# Altium schematic symbol library OT Library.SchLib: 560 symbols (part 5 of 5)
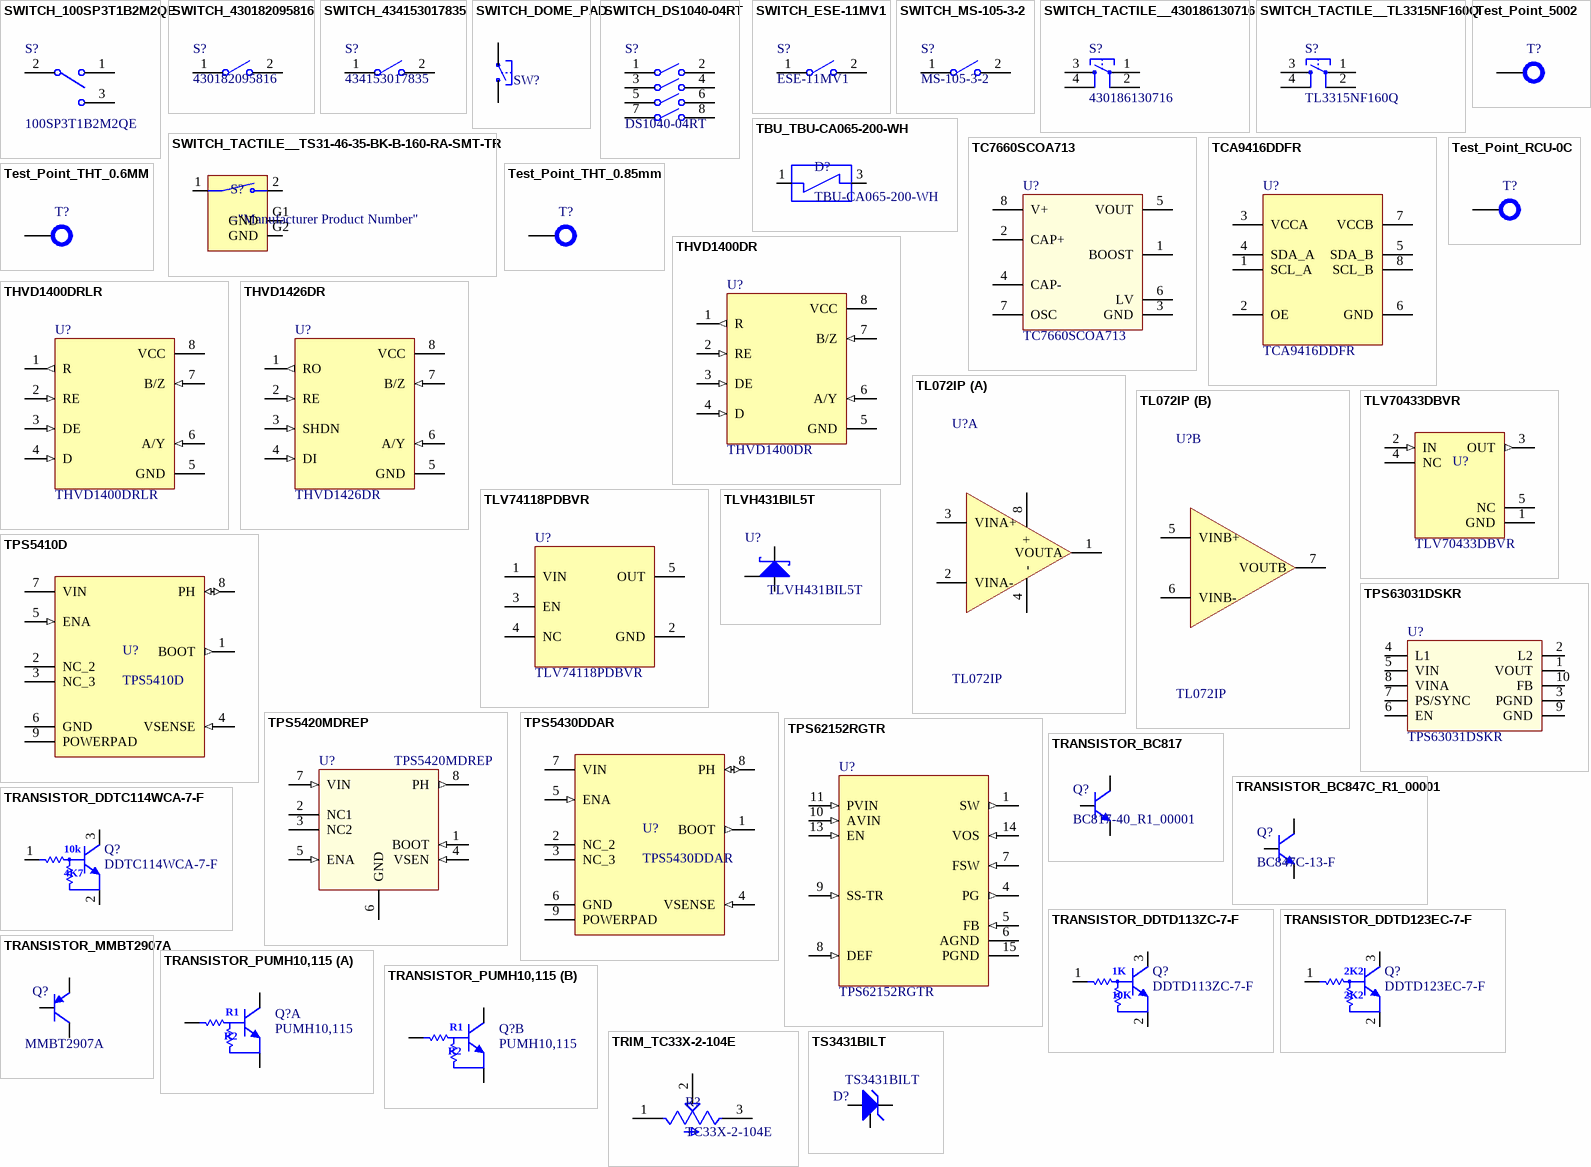
[diagram p22: symbols SWITCH_100SP3T1B2M2QE to TS3431BILT]

## TRANSISTOR_DDTC114WCA-7-F
designator Q?, comment DDTC114WCA-7-F
TRANS PREBIAS NPN 50V SOT23-3; Manufacturer: Diodes Incorporated; Manufacturer Part Number: DDTC114WCA-7-F; LCSC Part: C151436
footprint SOT-23-3 (TO-236-3, SC-59, SOT-23-3)
pins: 1 B, 2 E, 3 C
text: 10k; 4K7

## TRANSISTOR_DDTD113ZC-7-F
designator Q?, comment DDTD113ZC-7-F
TRANS PREBIAS NPN 50V SOT23-3; Manufacturer: Diodes Incorporated; Manufacturer Part Number: DDTD113ZC-7-F; ComponentLink1URL: https://www.diodes.com/assets/Datasheets/ds30384.pdf; ComponentLink1Description: https://www.diodes.com/assets/Datasheets/ds30384.pdf; LCSC Part: C155303
footprint SOT-23-3 (TO-236-3, SC-59, SOT-23-3)
pins: 1 B, 2 E, 3 C
text: 1K; 10K

## TRANSISTOR_DDTD123EC-7-F
designator Q?, comment DDTD123EC-7-F
TRANS PREBIAS NPN 50V SOT23-3; Manufacturer: Diodes Incorporated; Manufacturer Part Number: DDTD123EC-7-F; LCSC Part: C526550
footprint SOT-23-3 (TO-236-3, SC-59, SOT-23-3)
pins: 1 B, 2 E, 3 C
text: 2K2

## TRANSISTOR_MMBT2907A
designator Q?, comment MMBT2907A
TRANS PNP 60V 0.6A SOT-23; Manufacturer: Diotec Semiconductor; Manufacturer Part Number: MMBT2907A; LCSC Part: C462959
footprint SOT-23 (TO-236AB)
pins: 1 B, 2 E, 3 C

## TRANSISTOR_PUMH10,115
designator Q?, comment PUMH10,115
TRANS PREBIAS 2NPN 50V 6TSSOP; Manufacturer: Nexperia USA; Current - Collector (Ic) (Max): 100 mA; Manufacturer Part Number: PUMH10,115; Voltage - Collector Emitter Breakdown (Max): 50V; Datasheet: https://assets.nexperia.com/documents/data-sheet/PEMH10_PUMH10.pdf; LCSC Part: C81379
footprint 6-TSSOP (Footprint not found)
part A pins: 1 E, 2 B, 6 C
part B pins: 3 C, 4 E, 5 B
part A text: R1; R2
part B text: R1; R2

## TRIM_TC33X-2-104E
designator R?, comment TC33X-2-104E
TRIMMER 100KOHM 0.15W J LEAD TOP; Manufacturer: Bourns; LCSC Part: C719186; Manufacturer Part Number: TC33X-2-104E
footprint TRIM_TC33X-2-104E
pins: 1 CCW, 2 W, 3 CW

## TS3431BILT
designator D?
IC VREF SHUNT ADJ 0.5% SOT23-3; Manufacturer: STMicroelectronics; Manufacturer Part Number: TS3431BILT; LCSC Part: C222248
footprint SOT-23-3 (TO-236-3, SC-59, SOT-23-3)
pins: 1 Ref, 2 K, 3 A

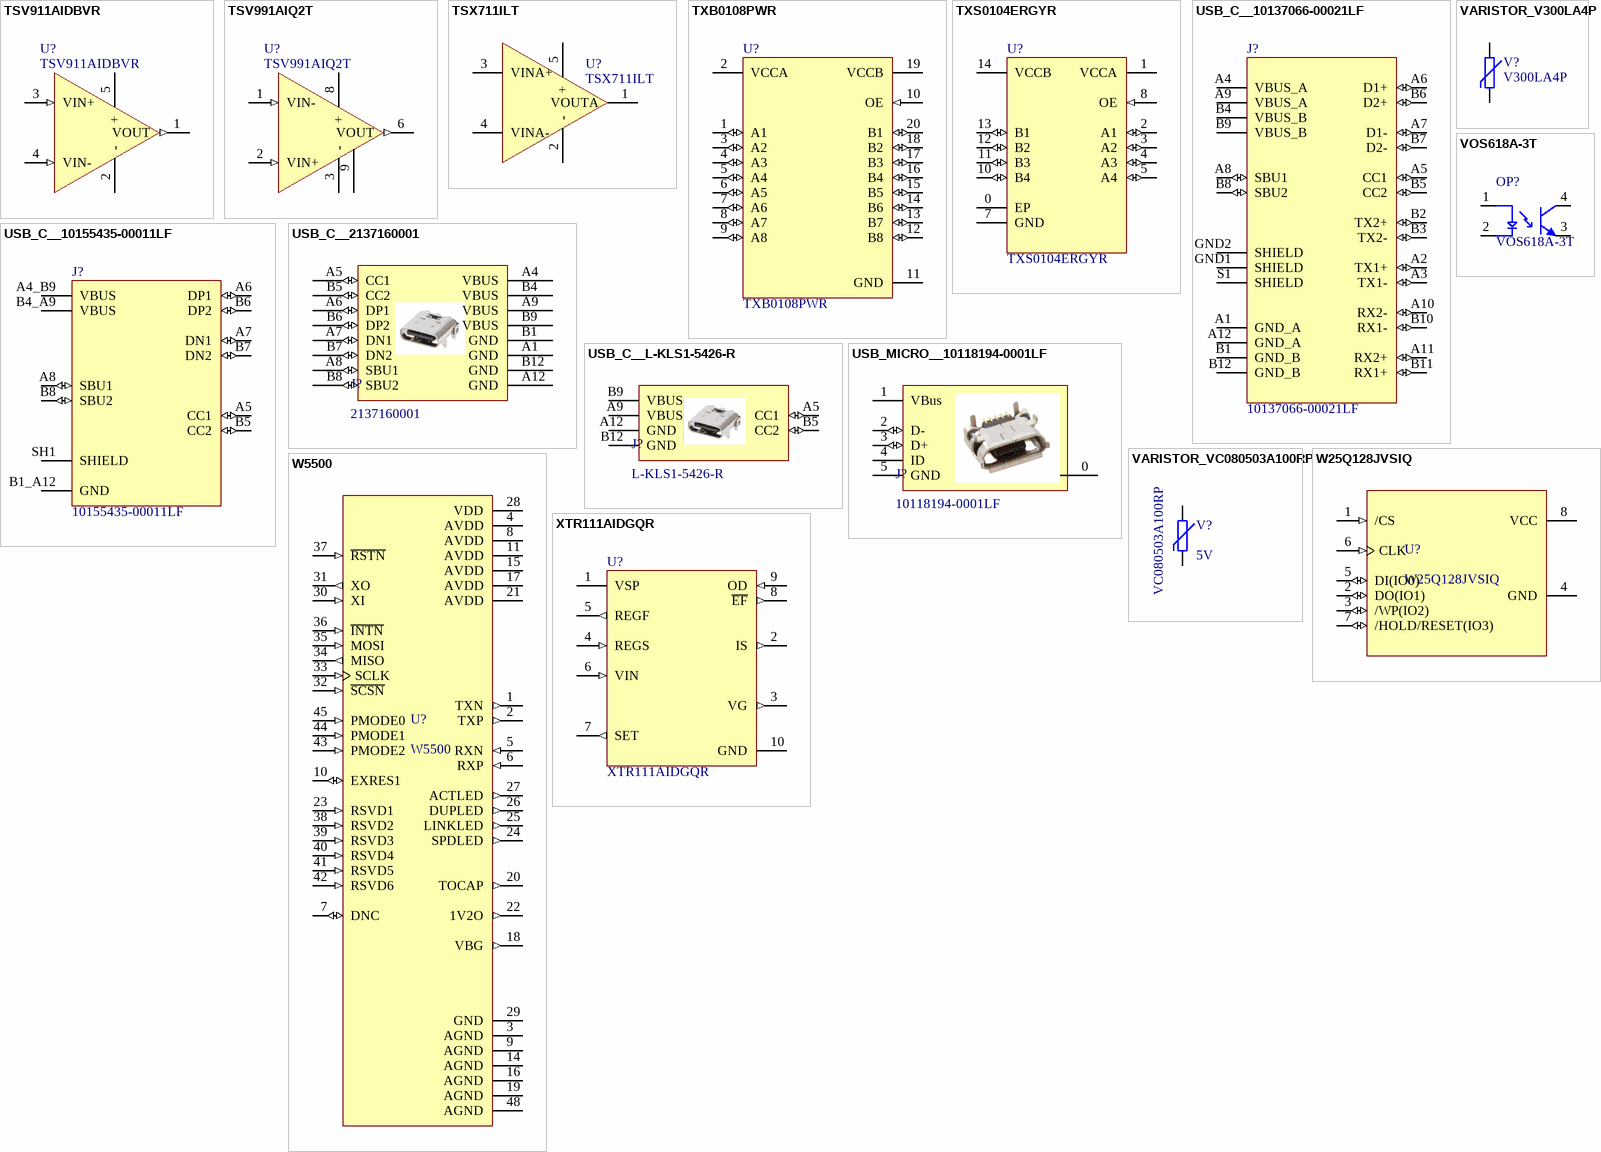
[diagram p18: symbols TSV911AIDBVR to XTR111AIDGQR]

## TSV911AIDBVR
designator U?
IC OPAMP GP 1 CIRCUIT SOT23-5; Manufacturer: Texas Instruments; Manufacturer Part Number: TSV911AIDBVR
footprint SOT-23-5 (SC-74A, SOT-753)
pins: 1 VOUT (out), 2 - (power), 3 VIN+ (in), 4 VIN- (in), 5 + (power)

## TSV991AIQ2T
designator U?
IC OPAMP GP 1 CIRCUIT 8DFN; Manufacturer: Texas Instruments; Manufacturer Part Number: TSV991AIQ2T
footprint 8-UFDFN Exposed Pad (8-DFN (2x2))
pins: 1 VIN- (in), 2 VIN+ (in), 3 - (power), 6 VOUT (out), 7 - (power), 8 + (power), 9 EP (power)

## TSX711ILT
designator U?
IC OPAMP GP 1 CIRCUIT SOT23-5; Manufacturer: STMicroelectronics; Manufacturer Part Number: TSX711ILT; LCSC Part: C443987
footprint SOT-23-5 (SC-74A, SOT-753)
pins: 1 VOUTA, 2 -, 3 VINA+, 4 VINA-, 5 +

## TXB0108PWR
designator U?
IC TRANSLATOR BIDIR 20TSSOP; Manufacturer: Texas Instruments; Manufacturer Part Number: TXB0108PWR; LCSC Part: C53406
footprint 20-TSSOP ((0.173", 4.40mm Width))
pins: 1 A1 (io), 2 VCCA (power), 3 A2 (io), 4 A3 (io), 5 A4 (io), 6 A5 (io), 7 A6 (io), 8 A7 (io), 9 A8 (io), 10 OE (in), 11 GND (power), 12 B8 (io), 13 B7 (io), 14 B6 (io), 15 B5 (io), 16 B4 (io), 17 B3 (io), 18 B2 (io), 19 VCCB (power), 20 B1 (io)

## TXS0104ERGYR
designator U?
IC TRANSLTR BIDIRECTIONAL 14VQFN; Manufacturer: TEXAS INSTRUMENTS; Manufacturer Part Number: TXS0104ERGYR; ComponentLink1URL: http://www.tme.eu/en/details/txs0104ergyr/level-translators/texas-instruments/; ComponentLink1Description: http://www.tme.eu/en/details/txs0104ergyr/level-translators/texas-instruments/; LCSC Part: C154926
footprint VQFN_14_EPAD
pins: 0 EP (power), 1 VCCA (power), 2 A1 (io), 3 A2 (io), 4 A3 (io), 5 A4 (io), 7 GND (power), 8 OE (in), 10 B4 (io), 11 B3 (io), 12 B2 (io), 13 B1 (io), 14 VCCB (power)

## USB_C__10137066-00021LF
designator J?, comment 10137066-00021LF
USB 3.1 RECPT CONN; Manufacturer: Amphenol ICC; Manufacturer Part Number: 10137066-00021LF; LCSC Part: C5417178
footprint USB_C__10137066-00021LF (Footprint not found)
pins: A1 GND_A (power), A2 TX1+ (io), A3 TX1- (io), A4 VBUS_A (power), A5 CC1 (io), A6 D1+ (io), A7 D1- (io), A8 SBU1 (io), A9 VBUS_A (power), A10 RX2- (io), A11 RX2+ (io), A12 GND_A (power), B1 GND_B (power), B2 TX2+ (io), B3 TX2- (io), B4 VBUS_B (power), B5 CC2 (io), B6 D2+ (io), B7 D2- (io), B8 SBU2 (io), B9 VBUS_B (power), B10 RX1- (io), B11 RX1+ (io), B12 GND_B (power), GND1 SHIELD, GND2 SHIELD, S1 SHIELD, S2 SHIELD, S3 SHIELD, S4 SHIELD, S5 SHIELD, S6 SHIELD, S7 SHIELD, S8 SHIELD

## USB_C__10155435-00011LF
designator J?, comment 10155435-00011LF
USB TYPE C R/A SMT 16PIN; Manufacturer: Amphenol ICC (FCI); Manufacturer Part Number: 10155435-00011LF
footprint USB_C__10155435-00011LF (Footprint not found)
pins: A1_B12 GND (power), A4_B9 VBUS (power), A5 CC1 (io), A6 DP1 (io), A7 DN1 (io), A8 SBU1 (io), B1_A12 GND (power), B4_A9 VBUS (power), B5 CC2 (io), B6 DP2 (io), B7 DN2 (io), B8 SBU2 (io), SH1 SHIELD, SH2 SHIELD, SH3 SHIELD, SH4 SHIELD

## USB_C__2137160001
designator J?, comment 2137160001
Type C Receptacle DIP 16PIN; Manufacturer: Molex; Supplier 1: RSComponents; Manufacturer Part Number: 2137160001; RoHS: No; Category: Connectors; Stock 1: 6985; Pricing 1: 800=0.58100, 1600=0.55200 (GBP); Supplier Part Number 1: 2153153
footprint USB_C__2137160001 (Footprint not found)
pins: A1 GND (power), A4 VBUS (power), A5 CC1 (io), A6 DP1 (io), A7 DN1 (io), A8 SBU1 (io), A9 VBUS (power), A12 GND (power), B1 GND (power), B4 VBUS (power), B5 CC2 (io), B6 DP2 (io), B7 DN2 (io), B8 SBU2 (io), B9 VBUS (power), B12 GND (power)

## USB_C__L-KLS1-5426-R
designator J?, comment L-KLS1-5426-R
CONN.USB C TYPE 6PIN SMT R/A FEMALE REEL; Manufacturer: KLS ELECTRONIC; Alternative: USB4125-GF-A-0190; Manufacturer Part Number: L-KLS1-5426-R; Category: Connectors
footprint USB_C__L-KLS1-5426-R (Footprint not found)
pins: A5 CC1 (io), A9 VBUS (power), A12 GND (power), B5 CC2 (io), B9 VBUS (power), B12 GND (power)

## USB_MICRO__10118194-0001LF
designator J?, comment 10118194-0001LF
CONN RCPT USB2.0 MICRO B SMD R/A; Manufacturer: Amphenol Communications Solutions; Manufacturer Part Number: 10118194-0001LF; LCSC Part: C132563
footprint AMPHENOL_10118194-0001LF
pins: 0 Shield, 1 VBus (power), 2 D- (io), 3 D+ (io), 4 ID (power), 5 GND (power)

## VARISTOR_V300LA4P
designator V?, comment V300LA4P
VARISTOR 470V 1.2KA DISC 7MM; Manufacturer: Littelfuse; Manufacturer Part Number: V300LA4P; ComponentLink1URL: https://datasheet.ciiva.com/27053/1764141-27053510.pdf?src-supplier=Jameco; ComponentLink1Description: https://datasheet.ciiva.com/27053/1764141-27053510.pdf?src-supplier=Jameco; ComponentLink2URL: https://datasheet.ciiva.com/25604/0900766b81107157-25604609.pdf?src-supplier=Rs; ComponentLink2Description: https://datasheet.ciiva.com/25604/0900766b81107157-25604609.pdf?src-supplier=Rs; ComponentLink3URL: https://datasheet.ciiva.com/8071/482376-8071047.pdf?src-supplier=Element14; ComponentLink3Description: https://datasheet.ciiva.com/8071/482376-8071047.pdf?src-supplier=Element14; ComponentLink4URL: https://datasheet.ciiva.com/4540/littelfuse-mov-la-34212-4540508.pdf?src-supplier=Mouser; ComponentLink4Description: https://datasheet.ciiva.com/4540/littelfuse-mov-la-34212-4540508.pdf?src-supplier=Mouser; ComponentLink5URL: https://datasheet.ciiva.com/365/littelfuse-mov-la-365347.pdf?src-supplier=Digi-Key; ComponentLink5Description: https://datasheet.ciiva.com/365/littelfuse-mov-la-365347.pdf?src-supplier=Digi-Key; ComponentLink6URL: https://datasheet.ciiva.com/16503/la-16503102.pdf?src-supplier=Future+Electronics; ComponentLink6Description: https://datasheet.ciiva.com/16503/la-16503102.pdf?src-supplier=Future+Electronics; LCSC Part: C179065
footprint VARISTOR_V300LA4P (Footprint not found)
pins: 1, 2

## VARISTOR_VC080503A100RP
designator V?, comment VC080503A100RP  Varistor Voltage: 5V
VARISTOR 5V 40A 0805; Manufacturer: Kyocera AVX; Number of Terminals/Pins: 2; Capacitance: 1.4nF; Voltage Rating (AC): 2.3V; Voltage Rating (DC): 3.3V; Number of Circuits: 1; Energy: 0.1J; Clamping Voltage: 12V; Clamping Current: 1A; Voltage Tolerance: 20%; Min Varistor Voltage: 4V; Max Varistor Voltage: 6V; Current Rating: 1mA; Supplier 1: Avnet; Manufacturer Part Number: VC080503A100RP; Stock 1: 0; Pricing 1: 4000=0.2753 (USD); Mount: Surface Mount; Case/Package: 0805; Case Code (Metric): 2012; Case Code (Imperial): 0805; Material: Ceramic; Size Code: 0805; Min Operating Temperature: -55°C; Max Operating Temperature: 125°C; Packaging: Tape and Reel; Max Surge Current: 40A; Package Quantity: 4000; Voltage Rating: 3.3V; Max Output Current: 40A; Max Voltage Rating (AC): 2.3V; Max Voltage Rating (DC): 3.3V; Termination: SMD/SMT; Operating Supply Voltage: 3.3V; Series: TransGuard®; Clamping Voltage-Max: 12V; Length: 2.01mm; Width: 1.25mm; Depth: 1.25mm; Radiation Hardening: No; Lead Free: Lead Free; RoHS Compliant: Yes; ComponentLink1URL: https://datasheet.ciiva.com/26933/getdatasheetpartid-301873-26933655.pdf?src-supplier=Verical; ComponentLink1Description: https://datasheet.ciiva.com/26933/getdatasheetpartid-301873-26933655.pdf?src-supplier=Verical; ComponentLink2URL: https://datasheet.ciiva.com/16202/tguard-16202728.pdf?src-supplier=Future+Electronics; ComponentLink2Description: https://datasheet.ciiva.com/16202/tguard-16202728.pdf?src-supplier=Future+Electronics; ComponentLink3URL: https://datasheet.ciiva.com/369/tguard-369638.pdf?src-supplier=Digi-Key; ComponentLink3Description: https://datasheet.ciiva.com/369/tguard-369638.pdf?src-supplier=Digi-Key; Supplier Part Number 1: VC080503A100RP
footprint VARISTOR-0805
pins: 1, 2

## VOS618A-3T
designator OP?
OPTOISOLATOR 3.75KV TRANS 4-SSOP; Manufacturer: Vishay Semiconductor Opto Division; Manufacturer Part Number: VOS618A-3T; LCSC Part: C17701954
footprint 4-SOIC (Footprint not found)
pins: 1 A, 2 C, 3 ET, 4 CT

## W25Q128JVSIQ
designator U?
IC FLASH 128MBIT SPI/QUAD 8SOIC; Manufacturer: Winbond Electronics; LCSC Part: C571265; Manufacturer Part Number: W25Q128JVSIQ
footprint SOIC-8 (0.154", 3.90mm Width)
pins: 1 /CS (in), 2 DO(IO1) (io), 3 /WP(IO2) (io), 4 GND (power), 5 DI(IO0) (io), 6 CLK (in), 7 /HOLD/RESET(IO3) (io), 8 VCC (power)

## W5500
designator U?
IC CTLR 3-1 ETH TCP/IP 48LQFP; Manufacturer: WIZnet; Datasheet: https://docs.wiznet.io/img/products/w5500/w5500_ds_v109e.pdf; Manufacturer Part Number: W5500; LCSC Part: C32843
footprint 48-LQFP (48-LQFP (7x7))
pins: 1 TXN (out), 2 TXP (out), 3 AGND (power), 4 AVDD (power), 5 RXN (in), 6 RXP (in), 7 DNC (io), 8 AVDD (power), 9 AGND (power), 10 EXRES1 (io), 11 AVDD (power), 14 AGND (power), 15 AVDD (power), 16 AGND (power), 17 AVDD (power), 18 VBG (out), 19 AGND (power), 20 TOCAP (out), 21 AVDD (power), 22 1V2O (out), 23 RSVD1 (in), 24 SPDLED (out), 25 LINKLED (out), 26 DUPLED (out), 27 ACTLED (out), 28 VDD (power), 29 GND, 30 XI (in), 31 XO (out), 32 ~{SCSN} (in), 33 SCLK (in), 34 MISO (out), 35 MOSI (in), 36 ~{INTN} (in), 37 ~{RSTN} (in), 38 RSVD2 (in), 39 RSVD3 (in), 40 RSVD4 (in), 41 RSVD5 (in), 42 RSVD6 (in), 43 PMODE2 (in), 44 PMODE1 (in), 45 PMODE0 (in), 48 AGND (power)

## XTR111AIDGQR
designator U?
IC PREC VOLT-CURR CONV/TX 10-SON; Manufacturer: Texas Instruments; Manufacturer Part Number: XTR111AIDGQR; LCSC Part: C26350
footprint 10-HVSSOP (10-PowerTFSOP, 10-MSOP (0.118", 3.00mm Width))
pins: 1 VSP (power), 2 IS (out), 3 VG (out), 4 REGS (in), 5 REGF (out), 6 VIN (in), 7 SET (out), 8 ~{EF} (out), 9 OD (in), 10 GND (power), 11 GND (power)